# Altium footprint library Terminal.PcbLib: 10 footprints
Each footprint in its own frame and in the unit in brackets; x right, y up, seen from the top. Pads: shape width x height; smd on the part's side, far side on the other; paste and mask are expansions set on the pad; w line width, h text height; cw(c..) or ccw(c..) is an arc to the next point about the centre after c.
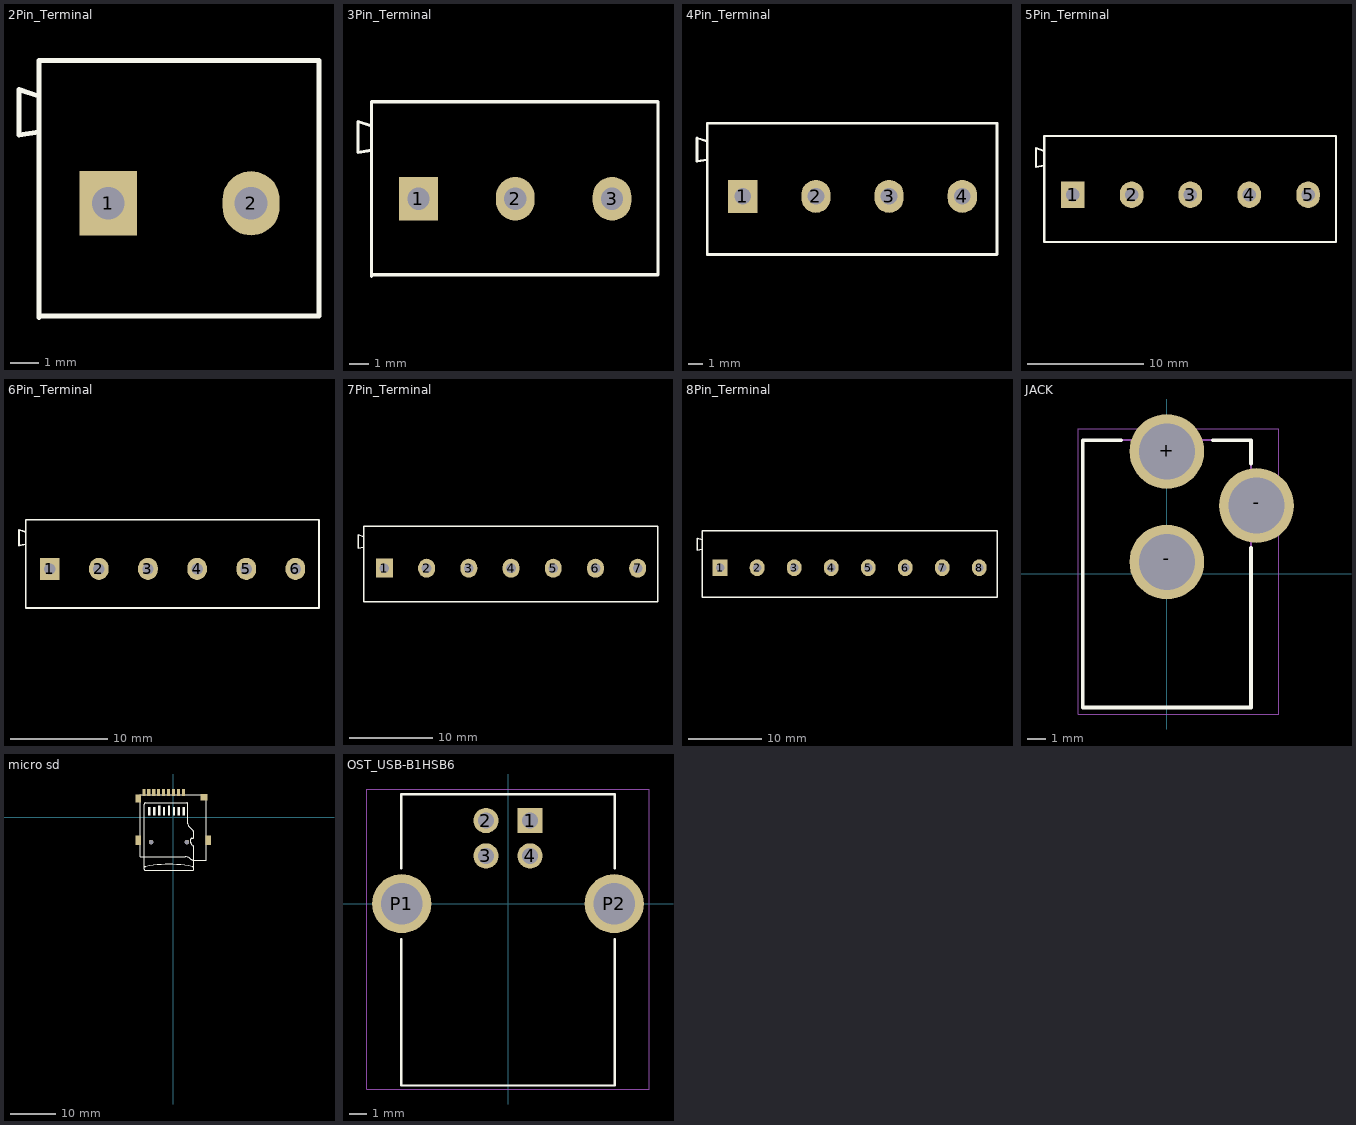
[diagram p0: the footprints below, top view; thin cyan lines are the x and y axes]

## 2Pin_Terminal [mil]
pads (2):
  rect 80x90 hole 46: 1(1190,330)
  oval 80x90 hole 46: 2(1390,330)
Top Overlay:
  lines w7: 1093,430 1065,425.33 1065,489.33 1093,480 ; 1093,170 1093,530 1485,530 1485,172 1093,172 ; 1093,170 1093,172 ; 1093,170 1093,171 1093,172
3D body "Socket Blue_2Pin.STEP": height 493, standoff -263.18, extent 1062.54,173 1485.46,530

## 3Pin_Terminal [mil]
pads (3):
  rect 80x90 hole 46: 1(2570.83,1150.24)
  oval 80x90 hole 46: 2(2770.83,1150.24) 3(2970.83,1150.24)
Top Overlay:
  lines w7: 2473.83,1250.24 2445.83,1245.57 2445.83,1309.57 2473.83,1300.24 ; 2473.83,990.24 2473.83,992.8 3065.87,992.8 3065.87,1350.24 2473.83,1350.24 2473.83,990.24
3D body "Socket Blue_3Pin.STEP": height 503, standoff -253.18, extent 2442.96,992.8 3065.87,1349.8

## 4Pin_Terminal [mil]
pads (4):
  rect 80x90 hole 46: 1(1646.06,470.24)
  oval 80x90 hole 46: 2(1846.06,470.24) 3(2046.06,470.24) 4(2246.06,470.24)
Top Overlay:
  lines w7: 1549.06,570.24 1521.06,565.57 1521.06,629.57 1549.06,620.24 ; 1549.06,310.24 1549.06,311.24 ; 1549.06,310.24 1549.06,312.24 1549.06,311.24 ; 1549.06,310.24 1549.06,670.24 2340.98,670.24 2340.98,311.24 1549.06,311.24
3D body "Socket Blue_4Pin.STEP": height 493, standoff -263.18, extent 1518.06,311.24 2340.98,668.24

## 5Pin_Terminal [mil]
pads (5):
  rect 80x90 hole 46: 1(2588.58,700)
  oval 80x90 hole 46: 2(2788.58,700) 3(2988.58,700) 4(3188.58,700) 5(3388.58,700)
Top Overlay:
  lines w7: 2491.58,800 2463.58,795.33 2463.58,859.33 2491.58,850 ; 2491.58,540 3483.58,540 3483.58,900 2491.58,900 2491.58,540
3D body "Socket Blue_5Pin.STEP": height 493, standoff -263.18, extent 2463.58,541.5 3486.5,898.5

## 6Pin_Terminal [mil]
pads (6):
  rect 80x90 hole 46: 1(1140.43,1068.07)
  oval 80x90 hole 46: 2(1340.43,1068.07) 3(1540.43,1068.07) 4(1740.43,1068.07) 5(1940.43,1068.07) 6(2140.43,1068.07)
Top Overlay:
  lines w7: 1043.43,910.07 1043.43,908.07 ; 1043.43,1168.07 1015.43,1163.4 1015.43,1227.4 1043.43,1218.07 ; 1043.43,908.07 1043.43,909.07 2236.43,909.07 2236.43,1268.07 1043.43,1268.07 1043.43,908.07
3D body "Socket Blue_6Pin.STEP": height 493, standoff -263.18, extent 1013.52,909.07 2236.43,1266.07

## 7Pin_Terminal [mil]
pads (7):
  rect 80x90 hole 46: 1(770.55,772.95)
  oval 80x90 hole 46: 2(970.55,772.95) 3(1170.55,772.95) 4(1370.55,772.95) 5(1570.55,772.95) 6(1770.55,772.95) 7(1970.55,772.95)
Top Overlay:
  lines w7: 673.55,612.95 673.55,972.95 2066.83,972.95 2066.83,613.8 673.55,613.8 ; 673.55,872.95 645.55,868.29 645.55,932.29 673.55,922.95
3D body "Socket Blue_7Pin.STEP": height 493, standoff -263.18, extent 643.91,613.8 2066.83,970.8

## 8Pin_Terminal [mil]
pads (8):
  rect 80x90 hole 46: 1(4561.34,3252.01)
  oval 80x90 hole 46: 2(4761.34,3252.01) 3(4961.34,3252.01) 4(5161.34,3252.01) 5(5361.34,3252.01) 6(5561.34,3252.01) 7(5761.34,3252.01) 8(5961.34,3252.01)
Top Overlay:
  lines w7: 4464.34,3092.51 6057.25,3092.51 6057.25,3452.01 4464.34,3452.01 4464.34,3092.01 4464.34,3094.01 ; 4464.34,3352.01 4436.34,3347.34 4436.34,3411.34 4464.34,3402.01
3D body "Socket Blue_8Pin.STEP": height 493, standoff -263.18, extent 4434.34,3092.51 6057.25,3449.51

## JACK [mm]
pads (3):
  round 4 hole 3 unplated: +(0,6.55) -(0,0.635) -(4.8,3.65)
Top Overlay:
  lines w0.2: -2.45,7.15 -4.5,7.15 -4.5,-7.15 4.5,-7.15 4.5,1.4 ; 2.45,7.15 4.5,7.15 4.5,5.9
Top Solder:
  region: 6.75,2.803 2.853,2.803 2.853,4.5 6.75,4.5
Bottom Solder:
  region: 6.75,2.802 2.852,2.802 2.852,4.5 6.75,4.5
Mechanical 13:
  lines w0.1: -4.5,-7.15 4.5,-7.15 4.5,7.15 -4.5,7.15 -4.5,-7.15
Mechanical 15:
  lines w0.05: -4.75,-7.5 6,-7.5 6,7.75 -4.75,7.75 -4.75,-7.5
3D body "DCJ250-10-A-K1-K--3DModel-STEP-56544.STEP": height 12, standoff -2.5, extent -4.47,-7.15 5.08,7.15

## micro sd [mm] "T-FLASH PUSH-PUSH"
height 2
pads (15):
  round 1 hole 1 unplated: 0(-4.95,-5.5) 0(3.05,-5.5)
  rect 0.7x1.6 smd: 1(2.25,5.5) 2(1.15,5.5) 3(0.05,5.5) 4(-1.05,5.5) 5(-2.15,5.5) 6(-3.25,5.5) 7(-4.35,5.5) 8(-5.45,5.5) 9(-6.55,5.5)
  rect 1.2x1.8 smd: 10(-7.75,4.2)
  rect 1.2x2.2 smd: 11(-7.75,-5.1) 12(7.75,-5.1)
  rect 1.6x1.5 smd: 13(6.85,4.45)
Top Overlay:
  rectangle: 2.096,0.4 2.604,2.254
  rectangle: 0.996,0.4 1.504,2.254
  rectangle: -0.104,0.4 0.404,2.254
  rectangle: -1.204,0.4 -0.696,2.635
  rectangle: -2.304,0.4 -1.796,2.254
  rectangle: -3.404,0.4 -2.896,2.635
  rectangle: -4.504,0.4 -3.996,2.254
  rectangle: -5.604,0.4 -5.096,2.254
  lines w0.2: -6.437,-11.153 cw(c-6.027,-11.564) -6.148,-10.996 cw(c-0.95,-35.45) 4.248,-10.996 cw(c4.127,-11.564) 4.537,-11.153 ; 3.85,-5.622 3.85,-4.904 cw(c4.104,-4.904) 4.104,-4.65 4.296,-4.65 ccw(c4.296,-4.396) 4.55,-4.396 4.55,-3.36 ccw(c4.042,-3.36) 4.401,-3.001 3.55,-2.15 cw(c4.274,-1.426) 3.25,-1.426 3.25,2.946 ccw(c2.996,2.946) 2.996,3.2 -6.196,3.2 ccw(c-6.196,2.946) -6.45,2.946 -6.45,-11.546 ccw(c-6.196,-11.546) -6.196,-11.8 4.296,-11.8 ccw(c4.296,-11.546) 4.55,-11.546 4.55,-6.71 ; 3.85,-5.59 ccw(c4.358,-5.59) 3.999,-5.949 4.401,-6.351 cw(c4.042,-6.71) 4.55,-6.71
  lines w0.254: -7.375,-8.8 2.685,-8.8 cw(c2.685,-10.574) 3.94,-9.32 ccw(c4.375,-8.884) 4.375,-9.5 7.375,-9.5 7.375,5 -7.375,5 -7.375,-8.8
3D body "User Library-MEM2055-00-190-01-A_revG.STEP": height 1.85, standoff -0.6, extent -8.001,-9.53 7.999,5.72
3D body "SW3dPS-Micro_SD.STEP": height 1.7, standoff 0.72, extent -6.389,-11.811 4.611,3.189

## OST_USB-B1HSB6 [mm]
pads (6):
  rect 1.428x1.428 / inner round 1.428 / far side rect 1.428x1.428 hole 0.92: 1(1.25,4.71)
  round 1.428 hole 0.92: 2(-1.25,4.71) 3(-1.25,2.71) 4(1.25,2.71)
  round 3.346 hole 2.33: P1(-6.02,0) P2(6.02,0)
Top Overlay:
  lines w0.127: -6.05,-2 -6.05,-10.3 6.05,-10.3 6.05,-2 ; -6.05,2 -6.05,6.2 6.05,6.2 6.05,2
Mechanical 15:
  lines w0.05: -8,-10.5 -8,6.5 8,6.5 8,-10.5 -8,-10.5
3D body "step_temp.STEP": height 10.9, standoff -3.6, extent -7.474,-10.404 7.366,6.096